# Altium schematic symbol library Crystal_32K.SchLib: 1 symbol
Pins are listed as number, name and electrical type; pins without a type are passive.

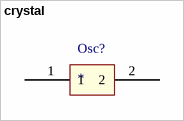
[diagram p0: symbol crystal]

## crystal
designator Osc?
footprint PCBComponent_1
pins: 1, 2